# EAGLE library part HEADER-2X3 (library df4iah_connector)
Header 2X3 2.54mm ISP, ...
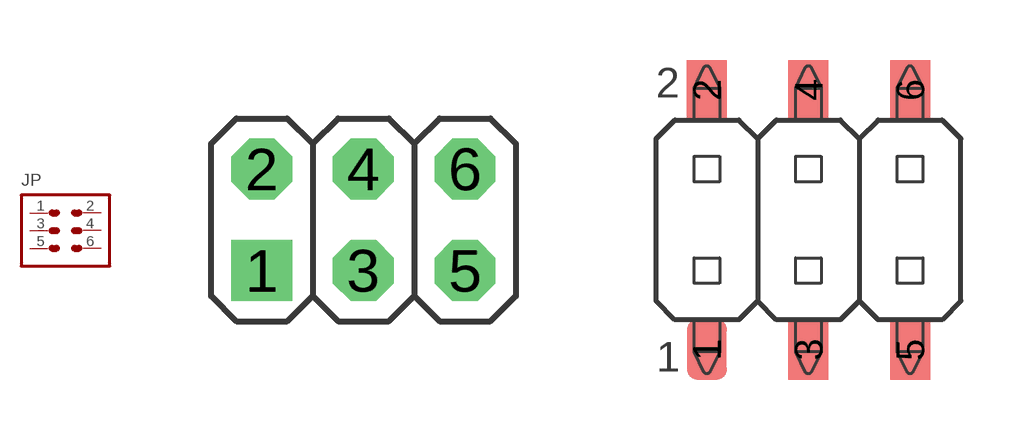
[diagram p5: symbol with the pads of 2X03; footprints 2X03, 2X03SMD]

Designator prefix JP

## HEADER-2X3  [2X03]
1  1  pas
2  2  pas
3  3  pas
4  4  pas
5  5  pas
6  6  pas

## HEADER-2X3SMD  [2X03SMD]
Pads as for 2X03

## Footprint 2X03 (pad centres in mm)
PIN HEADER
drill 1.016 square: 1 -2.54,-1.27
drill 1.016 octagon: 2 -2.54,1.27; 3 0,-1.27; 4 0,1.27; 5 2.54,-1.27; 6 2.54,1.27

## Footprint 2X03SMD (pad centres in mm)
SMD PIN HEADER AVR ISP 6 Pin, 0.1" Straight
smd 1 x 1.5: 1 -2.54,-3.25; 2 -2.54,3.25; 3 0,-3.25; 4 0,3.25; 5 2.54,-3.25; 6 2.54,3.25